# EAGLE library part IRFS3107-7 (library sc_usercreated)
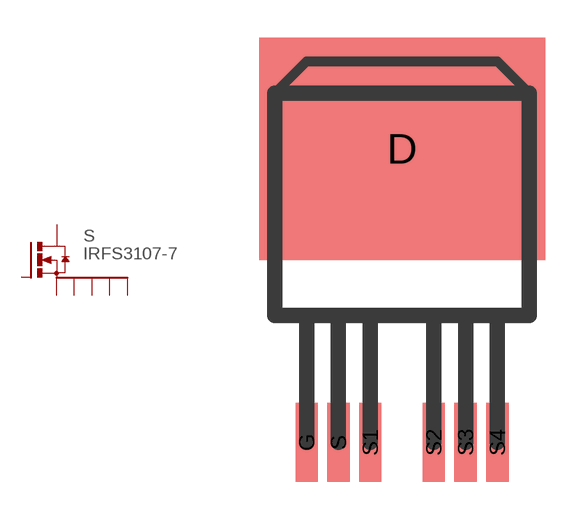
[diagram p22: symbol with the pads of D2PAK-7; footprint D2PAK-7]

Designator prefix S

## IRFS3107-7  [D2PAK-7]
D  D  pas
G  G  pas
S  S  pas
S1  S1  pas
S2  S2  pas
S3  S3  pas
S4  S4  pas

## Footprint D2PAK-7 (pad centres in mm)
smd 11.43 x 8.89: D 0,11.748
smd 0.889 x 3.175: G -3.81,0; S -2.54,0; S1 -1.27,0; S2 1.27,0; S3 2.54,0; S4 3.81,0